# EAGLE library part 74HC4053 (library Nexperia)
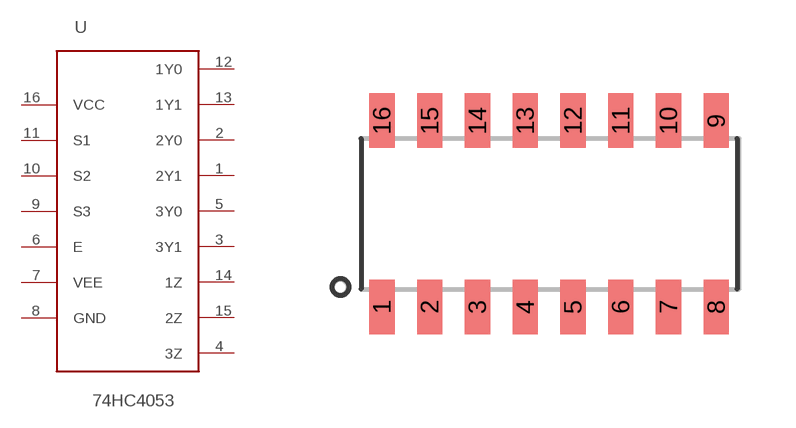
[diagram p0: symbol with the pads of SO16; footprint SO16]

Designator prefix -

## 74HC4053  [SO16]
1  2Y1
2  2Y0
3  3Y1
4  3Z
5  3Y0
6  E
7  VEE
8  GND
9  S3
10  S2
11  S1
12  1Y0
13  1Y1
14  1Z
15  2Z
16  VCC

## Footprint SO16 (pad centres in mm)
smd 0.67 x 1.45: 1 -4.445,-2.475; 2 -3.175,-2.475; 3 -1.905,-2.475; 4 -0.635,-2.475; 5 0.635,-2.475; 6 1.905,-2.475; 7 3.175,-2.475; 8 4.445,-2.475; 9 4.445,2.475; 10 3.175,2.475; 11 1.905,2.475; 12 0.635,2.475; 13 -0.635,2.475; 14 -1.905,2.475; 15 -3.175,2.475; 16 -4.445,2.475